# Altium footprint library CKCL44.PcbLib: 1 footprints
Each footprint in its own frame and in the unit in brackets; x right, y up, seen from the top. Pads: shape width x height; smd on the part's side, far side on the other; paste and mask are expansions set on the pad; w line width, h text height; cw(c..) or ccw(c..) is an arc to the next point about the centre after c.
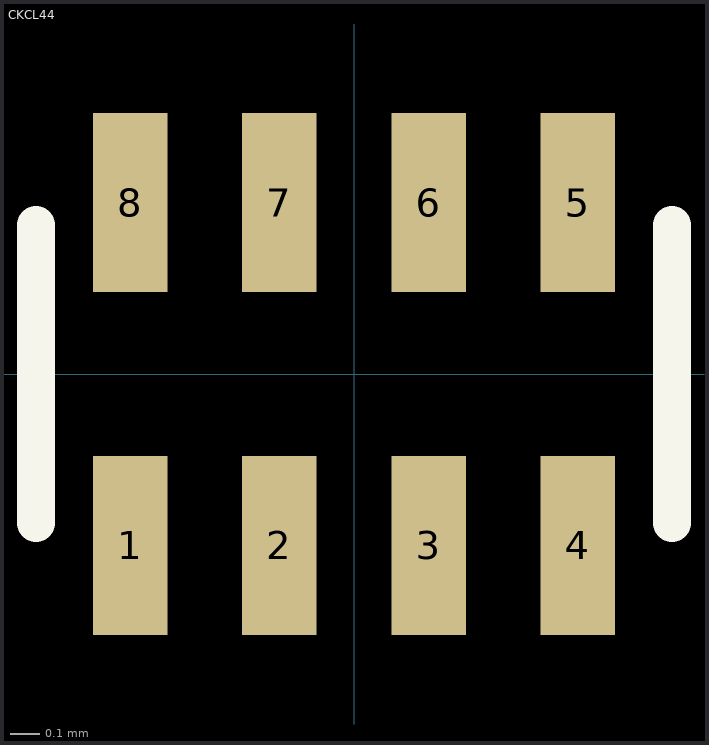
[diagram p0: the footprint, top view; thin cyan lines are the x and y axes]

## CKCL44 [mm]
height 0.55
pads (8):
  rect 0.25x0.6 smd mask+0.05: 1(-0.75,-0.575) 2(-0.25,-0.575) 3(0.25,-0.575) 4(0.75,-0.575) 5(0.75,0.575) 6(0.25,0.575) 7(-0.25,0.575) 8(-0.75,0.575)
Top Overlay:
  lines w0.127: -1.067,-0.5 -1.067,0.5 ; 1.067,-0.5 1.067,0.5
3D body: height 0.52, standoff 0, extent -1.004,-0.626 0.996,0.654